# Altium footprint library PCB - LEADED - SOT-23 - TI TSOT-23-6.PCBLIB: 1 footprints
Each footprint in its own frame and in the unit in brackets; x right, y up, seen from the top. Pads: shape width x height; smd on the part's side, far side on the other; paste and mask are expansions set on the pad; w line width, h text height; cw(c..) or ccw(c..) is an arc to the next point about the centre after c.
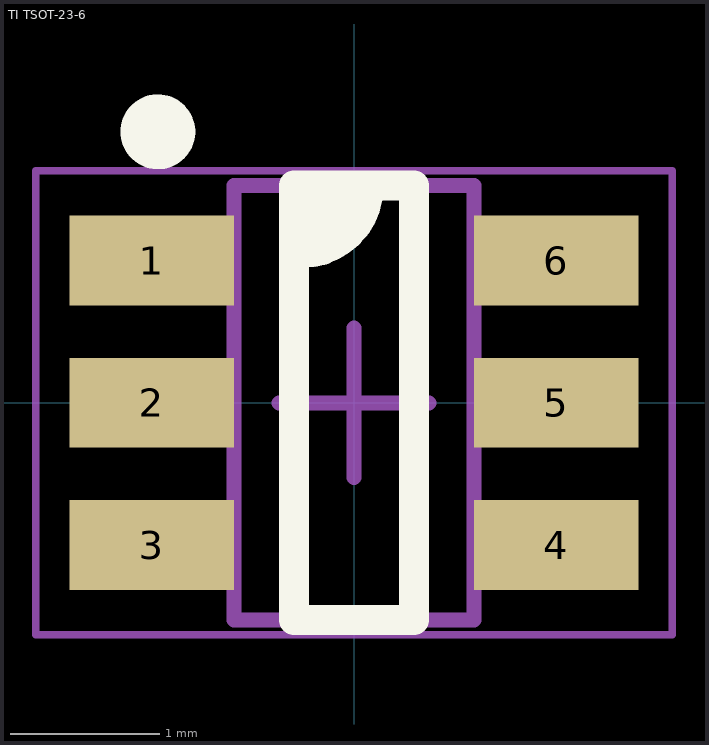
[diagram p0: the footprint, top view; thin cyan lines are the x and y axes]

## TI TSOT-23-6 [mm] "TSOT23, 6-Leads, Body 2.90x2.80mm, Pitch 0.95mm, IPC High Density"
height 1.1
pads (6):
  rrect1% 1.1x0.6 smd: 1(-1.35,0.95) 2(-1.35,0) 3(-1.35,-0.95) 4(1.35,-0.95) 5(1.35,0) 6(1.35,0.95)
Top Overlay:
  circle w0.25: c-1.31,1.81 r0.125
  region: -0.4,1.45 0.1,1.45 0.1,1.3 -0.2,1 -0.4,1
  lines w0.2: -0.4,1 -0.35,1 ccw(c-0.35,1.45) 0.1,1.45 ; -0.4,-1.45 -0.4,1.45 0.4,1.45 0.4,-1.45 -0.4,-1.45
Mechanical 13:
  lines w0.1: -0.8,-1.45 -0.8,1.45 0.8,1.45 0.8,-1.45 -0.8,-1.45
Mechanical 15:
  lines w0.05: -2.125,-1.55 2.125,-1.55 2.125,1.55 -2.125,1.55 -2.125,-1.55
  lines w0.1: -0.5,0 0.5,0 ; 0,-0.5 0,0.5
3D body "TI - TSOT-23-6 v2.step": height 1.1, standoff 0, extent -1.4,-1.45 1.4,1.45